# EAGLE library part T1 (library 0_inductor)
Neofocal specific 5 winding Toroid (hand wound) DNOrder
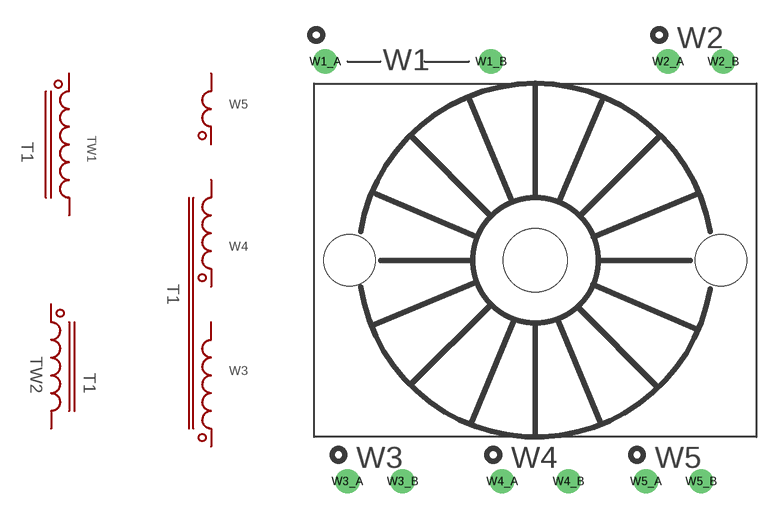
[diagram p0: symbol with the pads of 4WINDING_0.8IN; footprint 4WINDING_0.8IN]

Designator prefix T; gates W1=W1 W2=W2 W345=W3-5

## T1 (DIGIKEY: Neofocal)  [4WINDING_0.8IN]
W1_A  W1:1_A
W1_B  W1:1_B
W2_A  W2:2_A  pas
W2_B  W2:2_B  pas
W3_A  W345:3_A  pas
W3_B  W345:3_B  pas
W4_A  W345:4_A  pas
W4_B  W345:4_B  pas
W5_A  W345:5_A  pas
W5_B  W345:5_B  pas

## Footprint 4WINDING_0.8IN (pad centres in mm)
drill 0.889: W1_A -12.065,11.43; W1_B -2.54,11.43; W2_A 7.62,11.43; W2_B 10.795,11.43; W3_A -10.795,-12.7; W3_B -7.62,-12.7; W4_A -1.905,-12.7; W4_B 1.905,-12.7; W5_A 6.35,-12.7; W5_B 9.525,-12.7
hole 3.658 at 0,0
hole 2.946 at -10.668,0
hole 2.946 at 10.668,0